# EAGLE library part TCS3772 (library robotter_ic)
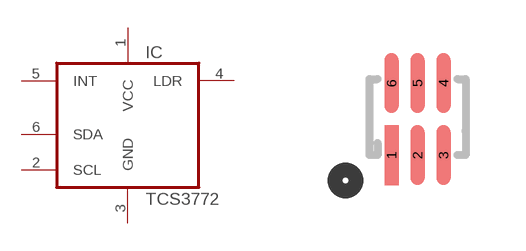
[diagram p16: symbol with the pads of FN6; footprint FN6]

Designator prefix IC

## TCS37725FN (I2C_ADDRESS: 0x29; MOUSER: 985-TCS37725FN; RS: 785-7749)  [FN6]
1  VCC  sup
2  SCL  oc
3  GND  sup
4  LDR  out
5  INT  oc
6  SDA  oc

## Footprint FN6 (pad centres in mm)
smd 0.35 x 1.5: 1 -0.65,-0.9; 2 0,-0.9; 3 0.65,-0.9; 4 0.65,0.9; 5 0,0.9; 6 -0.65,0.9